# Altium schematic symbol library RFComponents.SchLib: 22 symbols
Pins are listed as number, name and electrical type; pins without a type are passive.

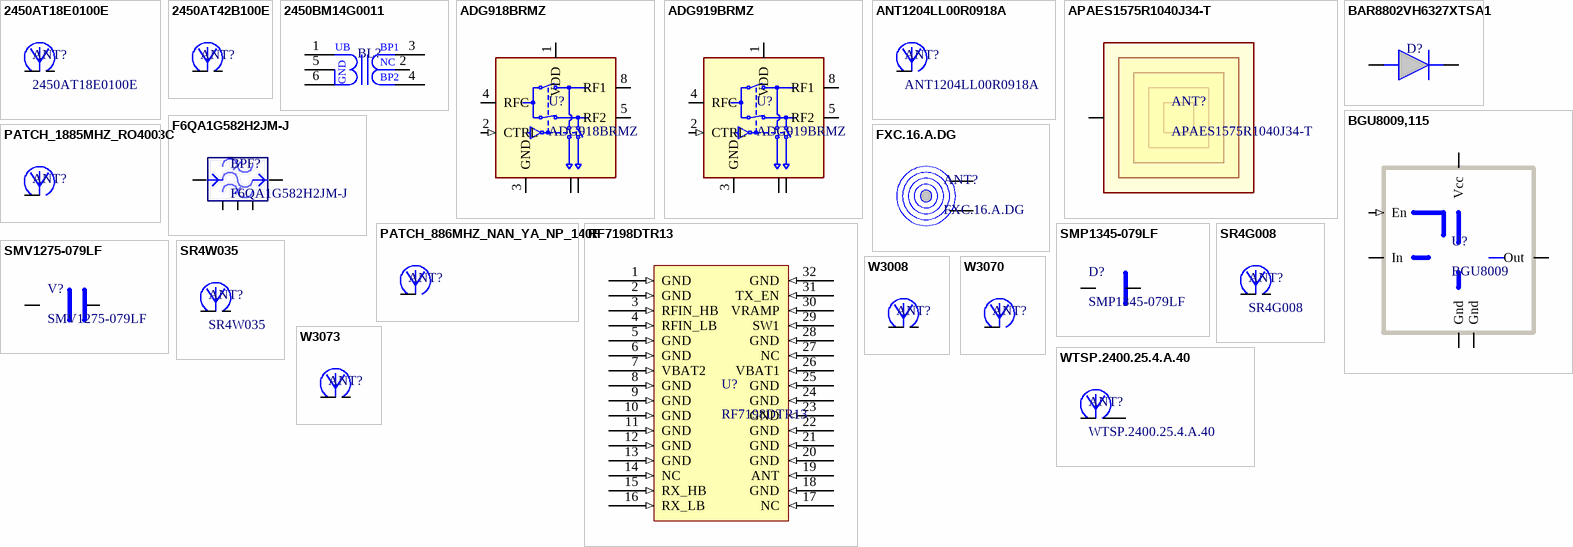
[diagram p0: symbols 2450AT18E0100E to WTSP.2400.25.4.A.40]

## 2450AT18E0100E
designator ANT?
7 Inch Reel / Mini 2.45Ghz Chip Antenna; Manufacturer: Johanson; Checked: TRUE; Supplier: Mouser; Supplier Part Number: 609-2450AT18E0100E; Manufacturer Part Number: 2450AT18E0100E; RoHS: Yes; Category: RF Antennas; Stock: 4431; Pricing: 1=0.69, 10=0.624, 50=0.624, 100=0.479, 1000=0.303, 10000=0.245 (USD); ComponentLink1URL: https://datasheet.ciiva.com/24048/antenna-2450at18e0100-253355-24048542.pdf?src-supplier=Mouser; ComponentLink1Description: https://datasheet.ciiva.com/24048/antenna-2450at18e0100-253355-24048542.pdf?src-supplier=Mouser; Supplier 1: Mouser; Supplier Part Number 1: 609-2450AT18E0100E
footprint ANTC3216X130N
pins: 1, 2

## 2450AT42B100E
designator ANT?  (value not drawn)
Antennas 2.45GHz ANTENNA; Manufacturer: Johanson; Gain: -1.5dB; Resistance: 50R; Number of Bands: 1; Return Loss: -9.5dB; Max Power Dissipation: 3W; Max Frequency: 2.5GHz; Supplier 1: Newark; Supplier Part Number 1: 01P4446; Manufacturer Part Number: 2450AT42B100E; RoHS: Yes; Category: RF Antennas; Pricing 1: 2000=0.25200, 4000=0.24300, 8000=0.23900, 12000=0.23400 (USD); Mount: Surface Mount; Termination: Solder; Frequency: 2.45GHz; Package Quantity: 1; Packaging: Tape and Reel; Impedance: 50R; Power Rating: 3W; Length: 5mm; Width: 2mm; Height: 0.079inch; REACH SVHC: Unknown; ComponentLink1URL: https://datasheet.ciiva.com/2791/jti-antenna-2450at42b100-11-20-2008-2791930.pdf?src-supplier=Digi-Key; ComponentLink1Description: https://datasheet.ciiva.com/2791/jti-antenna-2450at42b100-11-20-2008-2791930.pdf?src-supplier=Digi-Key; ComponentLink2URL: https://datasheet.ciiva.com/24023/antenna-2450at42b100-242363-24023167.pdf?src-supplier=Mouser; ComponentLink2Description: https://datasheet.ciiva.com/24023/antenna-2450at42b100-242363-24023167.pdf?src-supplier=Mouser; ComponentLink3URL: https://datasheet.ciiva.com/2791/2450at42b100-2791931.pdf?src-supplier=Digi-Key; ComponentLink3Description: https://datasheet.ciiva.com/2791/2450at42b100-2791931.pdf?src-supplier=Digi-Key; ComponentLink4URL: https://datasheet.ciiva.com/2791/2450at42b100-2791932.pdf?src-supplier=Digi-Key; ComponentLink4Description: https://datasheet.ciiva.com/2791/2450at42b100-2791932.pdf?src-supplier=Digi-Key
footprint XCVR_2450AT42B100E
pins: 1, 2

## 2450BM14G0011
designator BL?  (value not drawn)
BALUN-BPF TI CC2640 CC2650 MATCH; Manufacturer: Johanson Technology Inc.; Frequency Range: 2.4GHz ~ 2.5GHz; Impedance - Unbalanced/Balanced: 50 / - Ohm; Phase Difference: 180° ±10; Insertion Loss (Max): 1.5dB; Return Loss (Min): 9.5dB; Supplier 1: Digi-Key; Supplier Part Number 1: 712-1620-6-ND; Manufacturer Part Number: 2450BM14G0011; RoHS: RoHS Compliant; Category: RF/IF and RFID; Stock 1: 3696; Pricing 1: 1=0.45, 10=0.395, 25=0.3572, 100=0.3126, 250=0.27436, 500=0.24244, 1000=0.19141 (EUR); Packaging: Digi-Reel®; Part Status: Active; Package / Case: 6-SMD, No Lead (DFN, LCC); Mounting Type: Surface Mount; ComponentLink1URL: http://www.johansontechnology.com/datasheets/baluns-matched/2450BM14G0011.pdf; ComponentLink1Description: http://www.johansontechnology.com/datasheets/baluns-matched/2450BM14G0011.pdf
footprint SON50P80X70-6N (SON, 6-Leads, Body 1.60x0.80mm, Pitch 0.50mm, IPC Medium Density)
pins: 1 UB, 2, 3, 4, 5 UB, 6 UB
text: BP1; NC; GND; BP2

## ADG918BRMZ
designator U?
Wideband, 43 dB Isolation at 1 GHz, CMOS 1.65 V to 2.75 V, 2: 1 Mux/SPDT Switches; Manufacturer: Analog Devices; Manufacturer Part Number: ADG918BRMZ-REEL7; Manufacturer Lifecycle Status: PRODUCTION; -3db Bandwidth: 4GHz; Frequency: 2GHz; IIP3: 36dBm; Impedance: 50Ω; Insertion Loss (dB): 0.8dB; Interface: Parallel; Max Power Dissipation: 2.5µW; Max Supply Voltage: 2.75V; P1dB: 17dBm; Test Frequency: 1GHz; Throw Configuration: SPDT; Turn-Off Delay Time: 6.5ns; Turn-On Delay Time: 6.6ns; Supplier: Farnell; Supplier Part Number: ADG918BRMZ-REEL7; RoHS: Compliant; Category: RF Switches; Stock: 580; Pricing: 10=4, 25=3.72, 100=3.27, 250=3.11, 1000=2.35 (EUR); Bandwidth: 4GHz; Case/Package: MSOP; Contact Plating: Tin; Lead Free: Contains Lead; Lifecycle Status: Production; Clock Frequency: 2GHz; Max Operating Temperature: 85°C; Min Operating Temperature: -40°C; Mounting Technology: Surface Mount; Pins: 8; Operating Supply Voltage: 2.75V; Power Dissipation: 2.5µW; Radiation Hardening: No; Schedule B: 8542390000, 8542390000|8542390000, 8542390000|8542390000|8542390000, 8542390000|8542390000|8542390000|8542390000; ComponentLink1URL: https://datasheet.octopart.com:443/ADG918BRMZ-REEL7-Analog-Devices-datasheet-22148633.pdf?src-supplier=Analog+Devices; ComponentLink1Description: https://datasheet.octopart.com:443/ADG918BRMZ-REEL7-Analog-Devices-datasheet-22148633.pdf?src-supplier=Analog+Devices; ComponentLink2URL: https://octopart.com:443/opatz8j6/c1?t=lXev6-OdR9Ko1vuylFg00yH5zbhYvlxr1_hwleAmy1tOBzjbwavja89MkCmUHQ8OACRV-dzoxWQYr0rykX7dHfYbi7c13dB6Vc1pOZlUxHTdgkih3jQpB2ZhxLGUI_9n_vJGum-8n2b_NxK5O1dSmmfhuwmr9jdzyb5dK8U8p0vyEbypPDKXTuej0qAMWS8uBtT93zdjf1rhje2HhmjQXUBnv9FwYoyVzUudD_-9436A3f5jeUhKiBnD4g-VRMfQhme-OvFrJe8LB4lh9pMzB6H4nnhLePvPFNJLDI096LUA3U_6ONeTpw&src-supplier=Analog+Devices; ComponentLink2Description: https://octopart.com:443/opatz8j6/c1?t=lXev6-OdR9Ko1vuylFg00yH5zbhYvlxr1_hwleAmy1tOBzjbwavja89MkCmUHQ8OACRV-dzoxWQYr0rykX7dHfYbi7c13dB6Vc1pOZlUxHTdgkih3jQpB2ZhxLGUI_9n_vJGum-8n2b_NxK5O1dSmmfhuwmr9jdzyb5dK8U8p0vyEbypPDKXTuej0qAMWS8uBtT93zdjf1rhje2HhmjQXUBnv9FwYoyVzUudD_-9436A3f5jeUhKiBnD4g-VRMfQhme-OvFrJe8LB4lh9pMzB6H4nnhLePvPFNJLDI096LUA3U_6ONeTpw&src-supplier=Analog+Devices; ComponentLink3URL: https://datasheet.octopart.com:443/ADG918BRMZ-REEL7-Analog-Devices-datasheet-8399828.pdf?src-supplier=Analog+Devices; ComponentLink3Description: https://datasheet.octopart.com:443/ADG918BRMZ-REEL7-Analog-Devices-datasheet-8399828.pdf?src-supplier=Analog+Devices; ComponentLink4URL: https://datasheet.octopart.com:443/ADG918BRMZ-REEL7-Analog-Devices-datasheet-14183326.pdf?src-supplier=iiiC; ComponentLink4Description: https://datasheet.octopart.com:443/ADG918BRMZ-REEL7-Analog-Devices-datasheet-14183326.pdf?src-supplier=iiiC; ComponentLink5URL: http://sigma.octopart.com:80/conflict_mineral_statement/Analog-Devices-company-33.pdf?src-supplier=Compliance+Statements; ComponentLink5Description: http://sigma.octopart.com:80/conflict_mineral_statement/Analog-Devices-company-33.pdf?src-supplier=Compliance+Statements; ComponentLink6URL: https://octopart.com:443/opatz8j6/c1?t=enGI9_Hebo7IfdOX26EXD7LxTiFZAxfWPvuFV70H4QargQS1xVScT2rrC0MOonDCfcH3gUvrsJFtl46nTNFXUfQIaWzaHniSTKjiaEey2Wn2yIE8PVZ4l1BGSgdnlrV68h8mBimW202jC6x39GlgKmRveCXfJZtdn8SuaSrq6rAlgBrA9xm760TALkNjUvuRPPmBHdBAn6L-avX043ftiVTDv8NGHmdIX-Yy_QUl1tjLK8iAW5xjC5rigQoeNgHei1QyFzREXsaJrRlZau5TrqUnK8YA_R8VBwpshQeykqgnH4NGwOc7rw&src-supplier=Compliance+Statements; ComponentLink6Description: https://octopart.com:443/opatz8j6/c1?t=enGI9_Hebo7IfdOX26EXD7LxTiFZAxfWPvuFV70H4QargQS1xVScT2rrC0MOonDCfcH3gUvrsJFtl46nTNFXUfQIaWzaHniSTKjiaEey2Wn2yIE8PVZ4l1BGSgdnlrV68h8mBimW202jC6x39GlgKmRveCXfJZtdn8SuaSrq6rAlgBrA9xm760TALkNjUvuRPPmBHdBAn6L-avX043ftiVTDv8NGHmdIX-Yy_QUl1tjLK8iAW5xjC5rigQoeNgHei1QyFzREXsaJrRlZau5TrqUnK8YA_R8VBwpshQeykqgnH4NGwOc7rw&src-supplier=Compliance+Statements; Supplier 1: Farnell; Supplier Part Number 1: ADG918BRMZ
footprint TSOP65P490X110-8N (TSOP, 8-Leads, Body 3.00x3.00mm, Pitch 0.65mm, IPC Medium Density)
pins: 1 VDD (power), 2 CTRL (in), 3 GND (power), 4 RFC, 5 RF2, 6 GND, 7 GND, 8 RF1

## ADG919BRMZ
designator U?
Wideband, 43 dB Isolation at 1 GHz, CMOS 1.65 V to 2.75 V, 2: 1 Mux/SPDT Switches; Manufacturer: Analog Devices; Manufacturer Lifecycle Status: PRODUCTION; -3db Bandwidth: 4GHz; Frequency: 2GHz; IIP3: 36dBm; Insertion Loss (dB): 0.8dB; Interface: Parallel; Max Power Dissipation: 2.5µW; Max Supply Voltage: 2.75V; Min Supply Voltage: 1.65V; Nominal Supply Current: 100nA; Number of Bits: 1; Number of Outputs: 2; P1dB: 17dBm; Test Frequency: 1GHz; Throw Configuration: SPDT; Turn-Off Delay Time: 6.5ns; Turn-On Delay Time: 6.6ns; Supplier: Farnell; Supplier Part Number: ADG919BRMZ; Manufacturer Part Number: ADG919BRMZ; RoHS: Compliant; Category: RF Switches; Stock: 270; Pricing: 1=5.58, 10=4, 50=3.72, 100=3.27, 250=3.11, 500=2.79 (EUR); Bandwidth: 4GHz; Case/Package: MSOP; Contact Plating: Tin; Height: 850µm; Length: 3mm; Lifecycle Status: Production; Clock Frequency: 2GHz; Max Operating Temperature: 85°C; Min Operating Temperature: -40°C; Mounting Technology: Surface Mount; Number of Channels: 1; Pins: 8; Operating Supply Voltage: 2.75V; Packaging: Bulk; Power Dissipation: 2.5µW; Radiation Hardening: No; REACH SVHC: No; Schedule B: 8542390000, 8542390000|8542390000, 8542390000|8542390000|8542390000, 8542390000|8542390000|8542390000|8542390000; Thickness: 850µm; Width: 3mm; ComponentLink1URL: https://datasheet.octopart.com:443/ADG919BRMZ-Analog-Devices-datasheet-8399828.pdf?src-supplier=Newark; ComponentLink1Description: https://datasheet.octopart.com:443/ADG919BRMZ-Analog-Devices-datasheet-8399828.pdf?src-supplier=Newark; ComponentLink2URL: https://octopart.com:443/opatz8j6/c1?t=IaYg4LYzrHmnBLfChrs4I6XiFMIEfby4j1gNmaeLbAwUjZYg2dc4MmOVhSEq-ZM3Kxp2nriAOcefZ5pslkXVVDSaVEwe5FjTsECTHavlfrI1BzeoUgOi6_t8ockPu1KlDxtMhyUuvamEiED2-SPup38ln5L49Ri_OLF6BlJxkLpgGuBcZAnvFk8kDy06fk8m6pqV7rimAhw1HowElfkWdiuXBipB1liSKfSCTsLVoqUlSoxJ7ZGHFDX52FWvQz5RQuiQ5tOtdPg7vmhIfqFNjC_frUsvQ6pB_zsXaNGKKsrOJq1KFzo&src-supplier=Analog+Devices; ComponentLink2Description: https://octopart.com:443/opatz8j6/c1?t=IaYg4LYzrHmnBLfChrs4I6XiFMIEfby4j1gNmaeLbAwUjZYg2dc4MmOVhSEq-ZM3Kxp2nriAOcefZ5pslkXVVDSaVEwe5FjTsECTHavlfrI1BzeoUgOi6_t8ockPu1KlDxtMhyUuvamEiED2-SPup38ln5L49Ri_OLF6BlJxkLpgGuBcZAnvFk8kDy06fk8m6pqV7rimAhw1HowElfkWdiuXBipB1liSKfSCTsLVoqUlSoxJ7ZGHFDX52FWvQz5RQuiQ5tOtdPg7vmhIfqFNjC_frUsvQ6pB_zsXaNGKKsrOJq1KFzo&src-supplier=Analog+Devices; ComponentLink3URL: https://datasheet.octopart.com:443/ADG919BRMZ-Analog-Devices-datasheet-22148633.pdf?src-supplier=element14+APAC; ComponentLink3Description: https://datasheet.octopart.com:443/ADG919BRMZ-Analog-Devices-datasheet-22148633.pdf?src-supplier=element14+APAC; ComponentLink4URL: https://datasheet.octopart.com:443/ADG919BRMZ-Analog-Devices-datasheet-64274710.pdf?src-supplier=element14+APAC; ComponentLink4Description: https://datasheet.octopart.com:443/ADG919BRMZ-Analog-Devices-datasheet-64274710.pdf?src-supplier=element14+APAC; ComponentLink5URL: https://datasheet.octopart.com:443/ADG919BRMZ-Analog-Devices-datasheet-43993.pdf?src-supplier=Farnell; ComponentLink5Description: https://datasheet.octopart.com:443/ADG919BRMZ-Analog-Devices-datasheet-43993.pdf?src-supplier=Farnell; ComponentLink6URL: https://datasheet.octopart.com:443/ADG919BRMZ-Analog-Devices-datasheet-14183326.pdf?src-supplier=iiiC; ComponentLink6Description: https://datasheet.octopart.com:443/ADG919BRMZ-Analog-Devices-datasheet-14183326.pdf?src-supplier=iiiC; ComponentLink7URL: http://sigma.octopart.com:80/conflict_mineral_statement/Analog-Devices-company-33.pdf?src-supplier=Compliance+Statements; ComponentLink7Description: http://sigma.octopart.com:80/conflict_mineral_statement/Analog-Devices-company-33.pdf?src-supplier=Compliance+Statements; ComponentLink8URL: https://octopart.com:443/opatz8j6/c1?t=ssThEJai39RUi7Ok_l3i42p-WmiDfeUJ2u6TBeJuZ86A6du2R2cbwoHKrMlIivFwXiY3t5WPGUmWCNoIbul92YkX9Rfgcu-ny9Bd4hi5pAi2xpE-NmcdNQntyjcOH0i0C6OTVhZTvXVtX9oV8OryNH8peu4SOzXTS5Bw6qFEltHOW1zLttrC6wwEtTsYfNQf-G2jXTVldK4FgW11o9MdoJdWLIU9VtyGkXVhk8YNtub-RoeJg-jAliSEDFTDuwHkBjwf5IHiqsCDgA0wMzMgJcv_3evOxtna_MCtnA3rTA85vp8J59M&src-supplier=Compliance+Statements; ComponentLink8Description: https://octopart.com:443/opatz8j6/c1?t=ssThEJai39RUi7Ok_l3i42p-WmiDfeUJ2u6TBeJuZ86A6du2R2cbwoHKrMlIivFwXiY3t5WPGUmWCNoIbul92YkX9Rfgcu-ny9Bd4hi5pAi2xpE-NmcdNQntyjcOH0i0C6OTVhZTvXVtX9oV8OryNH8peu4SOzXTS5Bw6qFEltHOW1zLttrC6wwEtTsYfNQf-G2jXTVldK4FgW11o9MdoJdWLIU9VtyGkXVhk8YNtub-RoeJg-jAliSEDFTDuwHkBjwf5IHiqsCDgA0wMzMgJcv_3evOxtna_MCtnA3rTA85vp8J59M&src-supplier=Compliance+Statements; Supplier 1: Farnell; Supplier Part Number 1: ADG919BRMZ
footprint TSOP65P490X110-8N (TSOP, 8-Leads, Body 3.00x3.00mm, Pitch 0.65mm, IPC Medium Density)
pins: 1 VDD (power), 2 CTRL (in), 3 GND (power), 4 RFC, 5 RF2, 6 GND, 7 GND, 8 RF1

## ANT1204LL00R0918A
designator ANT?
Antennas 900/1800MHz 50 Ohm CHIP ANTENNA,GSM; Manufacturer: Pulse; Supplier: Digi-Key; Supplier Part Number: 311-1524-1-ND; Manufacturer Part Number: ANT1204LL00R0918A; RoHS: No; Stock: 4894; Pricing: 1=3, 10=2,692, 25=2,5452, 100=2,2058, 250=2,09272, 500=1,8778 (USD); Supplier 1: Digi-Key; Supplier Part Number 1: 311-1524-1-ND
footprint PSON190P1200X150-6N (PSON, 6-Leads, Body 4,40x12,00mm, Pitch 1,90mm, IPC Medium Density)
pins: 2

## APAES1575R1040J34-T
designator ANT?
ANT 1575/1613MHZ GPS/WLAN PATCH; Manufacturer: Abracon LLC; Frequency Group: UHF (1 GHz ~ 2 GHz); Frequency (Center/Band): 1.575GHz; Frequency Range: 1.575GHz ~ 1.615GHz; Antenna Type: Ceramic Patch; Number of Bands: 1; VSWR: 1.5; Return Loss: -10dB; Gain: -2dBic; Supplier 1: Digi-Key; Supplier Part Number 1: 535-12609-ND; Manufacturer Part Number: APAES1575R1040J34-T; RoHS: RoHS Compliant; Category: RF/IF and RFID; Stock 1: 96; Pricing 1: 1=3.5, 10=3.125, 25=2.8124, 100=2.5625, 250=2.31252, 500=2.075, 1000=1.75, 2500=1.6625, 5000=1.6 (USD); Packaging: Tray; Part Status: Active; Power - Max: -; Features: -; Termination: Pin; Ingress Protection: -; Mounting Type: Adhesive; Height (Max): 0.185" (4.70mm); Applications: GPS; ComponentLink1URL: http://abracon.com/patchantenna/APAES1575R1040J34-T.pdf; ComponentLink1Description: http://abracon.com/patchantenna/APAES1575R1040J34-T.pdf
footprint APAES1575R1040J34-T (GPS / WLAN Patch Antenna)
pins: 1

## BAR8802VH6327XTSA1
designator D?  (value not drawn)
BAR88 Series 80 V 100 mA 250 mW Surface Mount Silicon PIN Diode - SC-79; Manufacturer: Infineon; Value: 400fF; Diode Type: PIN - Single; Element Configuration: Single; Forward Current: 100mA; Forward Voltage: 1.2V; Max Power Dissipation: 250mW; Min Breakdown Voltage: 80V; Number of Elements: 1; Reverse Recovery Time: 500ns; Type: Switch; Supplier: Farnell; Supplier Part Number: BAR8802VH6327XTSA1; Manufacturer Part Number: BAR8802VH6327XTSA1; RoHS: Compliant; Category: RF Diodes; Stock: 1291; Pricing: 100=0.0908, 500=0.086, 1000=0.0822, 5000=0.0764 (EUR); Case/Package: SC; China RoHS: Compliant; Contact Plating: Tin; Export Control Classification Number (ECCN) Code: EAR99; Halogen Free: Halogen Free; Harmonized Tariff Schedule (HTS) Code: 8541.10.00.80; Introduction Date: 2001-08-21; Lead Free: Lead Free; Lifecycle Status: EOL; Max Current Rating: 100mA; Max Operating Temperature: 125°C; Min Operating Temperature: -55°C; Mounting Technology: Surface Mount; Pins: 2; Number of Terminals: 2; Package Quantity: 3000; Packaging: Tape & Reel; Power Dissipation: 250mW; Radiation Hardening: No; REACH SVHC: Yes; Reverse Voltage: 80V; Schedule B: 8541100070, 8541100070|8541100070|8541100070|8541100070|8541100070; ComponentLink1URL: https://datasheet.octopart.com:443/BAR8802VH6327XTSA1-Infineon-datasheet-11886060.pdf?src-supplier=IHS; ComponentLink1Description: https://datasheet.octopart.com:443/BAR8802VH6327XTSA1-Infineon-datasheet-11886060.pdf?src-supplier=IHS; ComponentLink2URL: https://datasheet.octopart.com:443/BAR88-02V-Infineon-datasheet-180050839.pdf?src-supplier=IHS; ComponentLink2Description: https://datasheet.octopart.com:443/BAR88-02V-Infineon-datasheet-180050839.pdf?src-supplier=IHS; ComponentLink3URL: https://datasheet.octopart.com:443/BAR8802VH6327XTSA1-Infineon-datasheet-78857895.pdf?src-supplier=Farnell; ComponentLink3Description: https://datasheet.octopart.com:443/BAR8802VH6327XTSA1-Infineon-datasheet-78857895.pdf?src-supplier=Farnell; ComponentLink4URL: https://datasheet.octopart.com:443/BAR8802VH6327XTSA1-Infineon-datasheet-8375464.pdf?src-supplier=_legacy+Avnet; ComponentLink4Description: https://datasheet.octopart.com:443/BAR8802VH6327XTSA1-Infineon-datasheet-8375464.pdf?src-supplier=_legacy+Avnet; ComponentLink5URL: http://sigma.octopart.com:80/conflict_mineral_statement/Infineon-company-51.pdf?src-supplier=Compliance+Statements; ComponentLink5Description: http://sigma.octopart.com:80/conflict_mineral_statement/Infineon-company-51.pdf?src-supplier=Compliance+Statements; Supplier 1: Farnell; Supplier Part Number 1: BAR8802VH6327XTSA1
footprint DIOM1208X06N (Molded Diode, 2-Leads, Body 1.20x0.80mm, IPC Medium Density)
pins: 1 K, 2 A

## BGU8009,115
designator U?, comment BGU8009
IC AMP MMIC LNA 6XSON; Manufacturer: NXP USA Inc.; Manufacturer Part Number: BGU8009,115; Frequency: 1.559GHz ~ 1.61GHz; P1dB: -7dBm; Gain: 18dB; Noise Figure: 0.65dB; RF Type: Galileo, GLONASS, GPS; Voltage - Supply: 1.5 V ~ 3.1 V; Current - Supply: 4.4mA; Supplier 1: Digi-Key; Supplier Part Number 1: 568-12226-6-ND; RoHS: RoHS Compliant; Category: RF/IF and RFID; Stock 1: 40854; Pricing 1: 1=0.73, 10=0.644, 25=0.582, 100=0.5094, 250=0.447, 500=0.39502, 1000=0.31185 (USD); Packaging: Digi-Reel®; Part Status: Active; Test Frequency: 1.559GHz ~ 1.61GHz; Package / Case: 6-XFDFN; Supplier Device Package: 6-XSON (1.1x0.9); ComponentLink1URL: http://www.nxp.com/documents/data_sheet/BGU8009.pdf; ComponentLink1Description: http://www.nxp.com/documents/data_sheet/BGU8009.pdf
footprint PSON40P90X50-6N (PSON, 6-Leads, Body 1.10x0.90mm, Pitch 0.40mm, IPC Medium Density)
pins: 1 Gnd (power), 2 Vcc, 3 Out, 4 Gnd (power), 5 In, 6 En (in)

## F6QA1G582H2JM-J
designator BPF?
FILTER SAW GPS+GLONASS+COMPASS; Manufacturer: Taiyo Yuden; Supplier 1: Digi-Key; Supplier Part Number 1: 587-3990-6-ND; Manufacturer Part Number: F6QA1G582H2JM-J; RoHS: RoHS Compliant; Category: Filters; Stock 1: 1315; Pricing 1: 1=0.35, 10=0.322, 25=0.3068, 50=0.297, 100=0.2871, 250=0.27224, 500=0.2277, 1000=0.17672 (USD); Packaging: Digi-Reel®; Part Status: Active; Mounting Type: Surface Mount; Package / Case: 5-SMD, No Lead; Height (Max): 0.020" (0.50mm); Size / Dimension: 0.043" L x 0.035" W (1.10mm x 0.90mm); ComponentLink1URL: http://media.digikey.com/pdf/Data%20Sheets/Taiyo%20Yuden%20PDFs%20URL%20links/F6QA1G582H2JM_Spec.pdf; ComponentLink1Description: http://media.digikey.com/pdf/Data%20Sheets/Taiyo%20Yuden%20PDFs%20URL%20links/F6QA1G582H2JM_Spec.pdf
footprint PSON40P110X50-6N (PSON, 6-Leads, Body 0.90x1.10mm, Pitch 0.40mm, IPC Medium Density)
pins: 1, 2, 3, 4, 5

## FXC.16.A.DG
designator ANT?
Nfc Flex Antenna 16MM Circle Wit; Manufacturer: Taoglas; Supplier: Farnell; Supplier Part Number: 4172804; Manufacturer Part Number: FXC.16.A.DG; RoHS: No; Category: Uncategorized; Stock: 200; Pricing: 1=1,25, 10=1,13, 25=1,04, 50=0,986, 100=0,916, 500=0,858 (EUR); Supplier 1: Digi-Key; Supplier Part Number 1: 931-FXC.16.A.DG-ND
footprint FXC.16.A.DG
pins: 1 T1 (power), 2 T2 (power)

## PATCH_886MHZ_NAN_YA_NP_140F
designator ANT?, comment PCB ANT  (value not drawn)
footprint PATCH_886MHZ_NAN_YA_NP_140F (Footprint not found)
pins: 1

## PATCH_1885MHZ_RO4003C
designator ANT?, comment PCB ANT  (value not drawn)
footprint PATCH_1885MHz_RO4003C (Footprint not found)
pins: 1

## RF7198DTR13
designator U?
Qorvo Quad-band GPRS Tx Module; Supplier 1: Mouser; Manufacturer: Qorvo; Manufacturer Part Number: RF7198DTR13; Category: Qorvo; Stock: 0; Brand: Qorvo; Minimum Order Quantity: 1; Reeling: False; Supplier Part Number 1: N/A
footprint PQFN50P525X530X45_HS-33N (PQFN, 32-Leads, Body 5.25x5.30mm, Pitch 0.50mm, Thermal Pad 3.72x3.72mm, IPC Medium Density)
pins: 1 GND (in), 2 GND (in), 3 RFIN_HB (in), 4 RFIN_LB (in), 5 GND (in), 6 GND (in), 7 VBAT2 (in), 8 GND (in), 9 GND (in), 10 GND (in), 11 GND (in), 12 GND (in), 13 GND (in), 14 NC (in), 15 RX_HB (in), 16 RX_LB (in), 17 NC (in), 18 GND (in), 19 ANT (in), 20 GND (in), 21 GND (in), 22 GND (in), 23 GND (in), 24 GND (in), 25 GND (in), 26 VBAT1 (in), 27 NC (in), 28 GND (in), 29 SW1 (in), 30 VRAMP (in), 31 TX_EN (in), 32 GND (in)

## SMP1345-079LF
designator D?
DIODE PIN 50V 250MW SC-79; Manufacturer: Skyworks Solutions; Forward Voltage: 890mV; Type: Switch; Diode Type: PIN - Single; Element Configuration: Single; Supplier 1: Digi-Key; Supplier Part Number 1: 863-1104-1-ND; Manufacturer Part Number: SMP1345-079LF; RoHS: Yes; Category: Diodes; Stock 1: 44; Pricing 1: 1=0.63000, 10=0.55100, 25=0.51760, 100=0.42250, 250=0.39244, 500=0.33400, 1000=0.26720 (USD); Mount: Surface Mount; Case/Package: SC; Number of Pins: 79; Contact Plating: Tin,Matte; Min Operating Temperature: -65°C; Max Operating Temperature: 150°C; Reverse Voltage: 50V; Reverse Voltage (DC): 50V; Power Dissipation: 250mW; Package Quantity: 3000; Max Power Dissipation: 250mW; Packaging: Tape and Reel; Radiation Hardening: No; ComponentLink1URL: https://datasheet.ciiva.com/15145/getdatasheetpartid-660579-15145139.pdf?src-supplier=Verical; ComponentLink1Description: https://datasheet.ciiva.com/15145/getdatasheetpartid-660579-15145139.pdf?src-supplier=Verical; ComponentLink2URL: https://datasheet.ciiva.com/961/wireless-infrastructure-solutions-961605.pdf?src-supplier=Digi-Key; ComponentLink2Description: https://datasheet.ciiva.com/961/wireless-infrastructure-solutions-961605.pdf?src-supplier=Digi-Key; ComponentLink3URL: https://datasheet.ciiva.com/961/200046m-961606.pdf?src-supplier=Digi-Key; ComponentLink3Description: https://datasheet.ciiva.com/961/200046m-961606.pdf?src-supplier=Digi-Key; ComponentLink4URL: https://datasheet.ciiva.com/961/200046m-961607.pdf?src-supplier=Digi-Key; ComponentLink4Description: https://datasheet.ciiva.com/961/200046m-961607.pdf?src-supplier=Digi-Key
footprint SODFL160X70-2N (SODFL, 2-Leads, Body 0.80x1.60mm, IPC Medium Density)
pins: 1 C, 2 A

## SMV1275-079LF
designator V?
Diode, Varactor, Hyperabrupt Junction, SC-79; Manufacturer: Skyworks Solutions; Supplier 1: Digi-Key; Supplier Part Number 1: 863-1729-1-ND; Manufacturer Part Number: SMV1275-079LF; RoHS: Yes; Stock 1: 10542; Pricing 1: 1=0.42000, 10=0.35600, 25=0.33240, 100=0.26600, 250=0.24700, 500=0.20900, 1000=0.16150 (USD); Mount: Surface Mount; Case/Package: SC; Min Operating Temperature: -55°C; Max Operating Temperature: 125°C; Packaging: Tape and Reel; ComponentLink1URL: http://www.mouser.com/ds/2/472/SMV1275_079LF_203096B-1079475.pdf?src-supplier=Mouser; ComponentLink1Description: http://www.mouser.com/ds/2/472/SMV1275_079LF_203096B-1079475.pdf?src-supplier=Mouser; ComponentLink2URL: http://www.skyworksinc.com/uploads/documents/SMV1275_079LF_203096B.pdf?src-supplier=Digi-Key; ComponentLink2Description: http://www.skyworksinc.com/uploads/documents/SMV1275_079LF_203096B.pdf?src-supplier=Digi-Key
footprint SODFL160X70-2N (SODFL, 2-Leads, Body 0.80x1.60mm, IPC Medium Density)
pins: 1 C, 2 A

## SR4G008
designator ANT?
ANT RF SINICA GNSS 1559-1609MHZ; Manufacturer: Antenova; Frequency Group: UHF (1 GHz ~ 2 GHz); Frequency (Center/Band): 1.561GHz, 1.575GHz, 1.602GHz; Frequency Range: 1.559GHz ~ 1.609GHz; Antenna Type: Chip; VSWR: 1.4; Return Loss: -12dB; Gain: 3dBi; Supplier 1: Digi-Key; Manufacturer Part Number: SR4G008; RoHS: RoHS Compliant; Category: RF/IF and RFID; Stock: 1626; Pricing: 1=3.08, 10=2.778, 25=2.4808, 100=2.2326, 250=1.98452, 500=1.73644 (USD); Packaging: Digi-Reel®; Part Status: Active; Features: -; Termination: Solder; Ingress Protection: -; Mounting Type: Surface Mount; Height (Max): 0.015" (0.40mm); Applications: Beidou, Galileo, GLONASS, GPS; ComponentLink1URL: http://www.antenova-m2m.com/wp-content/uploads/2015/11/Sinica-GNSS-SR4G008-PS-1.1.pdf; ComponentLink1Description: http://www.antenova-m2m.com/wp-content/uploads/2015/11/Sinica-GNSS-SR4G008-PS-1.1.pdf; Supplier Part Number 1: 627-1063-6-ND
footprint SR4G008 (GNSS -a)
pins: 1, 2

## SR4W035
designator ANT?
SMD ANTENNA FOR 2.4GHZ APPLICATI; Manufacturer: Antenova; Frequency Group: UHF (2 GHz ~ 3 GHz); Frequency Range: 2.4GHz ~ 2.5GHz; Antenna Type: Chip; VSWR: 1.8; Return Loss: -10dB; Gain: 3.5dBi; Supplier 1: Digi-Key; Manufacturer Part Number: SR4W035; RoHS: Request Inventory Verification; Category: RF/IF and RFID; Stock: 1508; Pricing: 1=1.47, 10=1.299, 25=1.1732, 100=1.0264, 250=0.90076, 500=0.796 (USD); Packaging: Digi-Reel®; Part Status: Active; Frequency (Center/Band): 2.4GHz; Features: -; Termination: Solder; Ingress Protection: -; Mounting Type: Surface Mount; Height (Max): 0.015" (0.40mm); Applications: Bluetooth, Wi-Fi, Zigbee™; ComponentLink1URL: http://media.digikey.com/pdf/Data%20Sheets/Antenova/SR4W035_Spec_1.0_3-3-17.pdf; ComponentLink1Description: http://media.digikey.com/pdf/Data%20Sheets/Antenova/SR4W035_Spec_1.0_3-3-17.pdf; Supplier Part Number 1: 627-1093-6-ND
footprint SR4W035 (Serica Footprint)
pins: 1, 2

## W3008
designator ANT?  (value not drawn)
ANTENNA BLUETOOTH/WLAN/WIFI CER; Manufacturer: Pulse Electronics Corporation; Frequency Group: UHF (2 GHz ~ 3 GHz); Frequency (Center/Band): 2.4GHz; Frequency Range: 2.4GHz ~ 2.483GHz; Antenna Type: Chip; Number of Bands: 1; Return Loss: -8dB; Gain: 1.7dBi; Supplier 1: Digi-Key; Manufacturer Part Number: W3008; RoHS: RoHS Compliant; Category: RF/IF and RFID; Stock 1: 17327; Pricing 1: 1=1.62, 10=1.437, 25=1.298, 100=1.1356, 250=0.99652, 500=0.88066, 1000=0.69525 (USD); Packaging: Digi-Reel®; Part Status: Active; VSWR: -; Power - Max: -; Features: -; Termination: Solder; Ingress Protection: -; Mounting Type: Surface Mount; Height (Max): 0.043" (1.10mm); Applications: Bluetooth; ComponentLink1URL: http://productfinder.pulseeng.com/products/datasheets/W3008.pdf; ComponentLink1Description: http://productfinder.pulseeng.com/products/datasheets/W3008.pdf; Supplier Part Number 1: 553-1530-6-ND
footprint W3008 (Bluetooth / WLAN / WiFi  Ceramic Chip Antenna, 2-Leads, Body 3.20x1.60mm, IPC Medium Density)
pins: 1, 2

## W3070
designator ANT?  (value not drawn)
ANTENNA CERAMIC DUAL BAND; Manufacturer: Pulse Electronics Corporation; Frequency Group: UHF (300 MHz ~ 1 GHz), UHF (1 GHz ~ 2 GHz); Frequency (Center/Band): 900MHz, 1.8GHz; Frequency Range: 880MHz ~ 960MHz, 1.71GHz ~ 1.88GHz; Antenna Type: Chip; Return Loss: -3.8dB, -4dB; Gain: 1.5dBi, 1dBi; Supplier 1: Digi-Key; Manufacturer Part Number: W3070; RoHS: RoHS Compliant; Category: RF/IF and RFID; Stock 1: 1744; Pricing 1: 1=2.71, 10=2.451, 25=2.1888, 100=1.9699, 250=1.751, 500=1.53212 (USD); Packaging: Digi-Reel®; Part Status: Active; VSWR: -; Power - Max: -; Features: -; Termination: Solder; Ingress Protection: -; Mounting Type: Surface Mount; Height (Max): 0.079" (2.00mm); Applications: GSM; ComponentLink1URL: http://productfinder.pulseeng.com/products/datasheets/W3070%20APP.pdf; ComponentLink1Description: http://productfinder.pulseeng.com/products/datasheets/W3070%20APP.pdf; Supplier Part Number 1: 553-1695-6-ND
footprint INDC10032X21N (Chip Inductor, 2-Leads, Body 10.00x3.15mm, IPC Medium Density)
pins: 1

## W3073
designator ANT?  (value not drawn)
QUAD BAND 3G/GSM CERAMIC ANTENNA; Manufacturer: Pulse Electronics Corporation; Frequency Group: UHF (1 GHz ~ 2 GHz); Frequency (Center/Band): 850MHz, 900MHz, 1.8GHz, 1.9GHz; Frequency Range: 824MHz ~ 894MHz, 1.71GHz ~ 2.17GHz; Antenna Type: Chip; Number of Bands: 4; Return Loss: -4.7dB, -3.5dB, -5.9dB, -3.3dB; Gain: 0.4dBi, 2.3dBi, 2.5dBi, 2.2dBi; Supplier 1: Digi-Key; Supplier Part Number 1: 553-2580-6-ND; Manufacturer Part Number: W3073; RoHS: RoHS Compliant; Category: RF/IF and RFID; Stock 1: 658; Pricing 1: 1=2.71, 10=2.451, 25=2.1888, 100=1.9699, 250=1.751 (USD); Packaging: Digi-Reel®; Part Status: Active; VSWR: -; Power - Max: -; Features: -; Termination: Solder; Ingress Protection: -; Mounting Type: Surface Mount; Height (Max): 0.157" (4.00mm); Applications: GSM, PCS, WCDMA; ComponentLink1URL: http://productfinder.pulseeng.com/products/datasheets/W3073.pdf; ComponentLink1Description: http://productfinder.pulseeng.com/products/datasheets/W3073.pdf
footprint INDC10032X41N (Chip Inductor, 2-Leads, Body 10.00x3.15mm, IPC Medium Density)
pins: 1, 2

## WTSP.2400.25.4.A.40
designator ANT?
WTSP.2400.25.4.A.40 25mm Embedded 2.4GHz Wi-Fi Terrablast Extermely Light Patch Antenna; Manufacturer: Taoglas; Supplier: DigiKey; Supplier Part Number: 931-1616-ND; Manufacturer Part Number: WTSP.2400.25.4.A.40; RoHS: Compliant; Category: RF Antennas; Stock: 132; Pricing: 1=17.7, 10=14.05, 25=13.1392, 200=11.76575, 400=11.45945, 600=11.30608 (USD); ComponentLink1URL: https://datasheet.octopart.com:443/WTSP.2400.25.4.A.40-Taoglas-datasheet-159167276.pdf?src-supplier=Sager+Electronics; ComponentLink1Description: https://datasheet.octopart.com:443/WTSP.2400.25.4.A.40-Taoglas-datasheet-159167276.pdf?src-supplier=Sager+Electronics; ComponentLink2URL: https://datasheet.octopart.com:443/WTSP.2400.25.4.A.40-Taoglas-datasheet-179014098.pdf?src-supplier=Master+Electronics; ComponentLink2Description: https://datasheet.octopart.com:443/WTSP.2400.25.4.A.40-Taoglas-datasheet-179014098.pdf?src-supplier=Master+Electronics; ComponentLink3URL: https://datasheet.octopart.com:443/WTSP.2400.25.4.A.40-Taoglas-datasheet-145015433.pdf?src-supplier=Future+Electronics; ComponentLink3Description: https://datasheet.octopart.com:443/WTSP.2400.25.4.A.40-Taoglas-datasheet-145015433.pdf?src-supplier=Future+Electronics
footprint WTSP.2400.25.4.A.40 (25mm Embedded 2.4GHz Wi-Fi® Terrablast Extremely Light Patch Antenna)
pins: 1, 2